# Altium schematic symbol library alchitry_elements.SCHLIB: 2 symbols
Pins are listed as number, name and electrical type; pins without a type are passive.

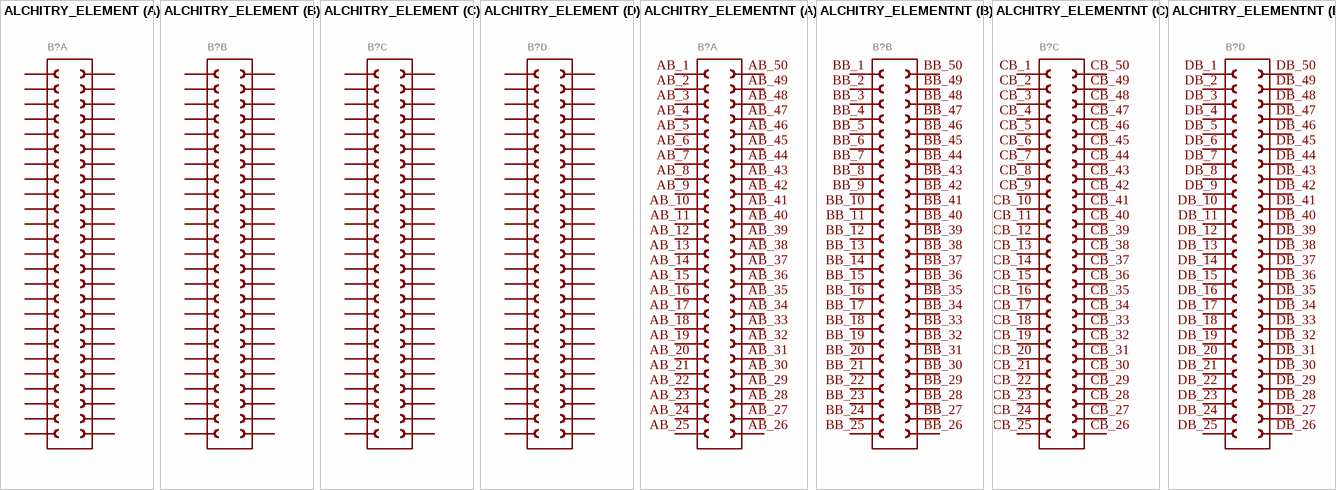
[diagram p0: symbols ALCHITRY_ELEMENT to ALCHITRY_ELEMENTNT]

## ALCHITRY_ELEMENT
designator B?
GateName_1: A; SymbolName_1: FE25-2; GateName_2: B; GateName_3: C; GateName_4: D; DeviceSetName: ALCHITRY_ELEMENT; SymbolName_2: FE25-2; SymbolName_3: FE25-2; SymbolName_4: FE25-2; LibraryName: alchitry_elements; Package: ELEMENT
footprint ELEMENT
part A pins: AB_1 AT_1 1, AB_2 AT_2 2, AB_3 AT_3 3, AB_4 AT_4 4, AB_5 AT_5 5, AB_6 AT_6 6, AB_7 AT_7 7, AB_8 AT_8 8, AB_9 AT_9 9, AB_10 AT_10 10, AB_11 AT_11 11, AB_12 AT_12 12, AB_13 AT_13 13, AB_14 AT_14 14, AB_15 AT_15 15, AB_16 AT_16 16, AB_17 AT_17 17, AB_18 AT_18 18, AB_19 AT_19 19, AB_20 AT_20 20, AB_21 AT_21 21, AB_22 AT_22 22, AB_23 AT_23 23, AB_24 AT_24 24, AB_25 AT_25 25, AB_26 AT_26 26, AB_27 AT_27 27, AB_28 AT_28 28, AB_29 AT_29 29, AB_30 AT_30 30, AB_31 AT_31 31, AB_32 AT_32 32, AB_33 AT_33 33, AB_34 AT_34 34, AB_35 AT_35 35, AB_36 AT_36 36, AB_37 AT_37 37, AB_38 AT_38 38, AB_39 AT_39 39, AB_40 AT_40 40, AB_41 AT_41 41, AB_42 AT_42 42, AB_43 AT_43 43, AB_44 AT_44 44, AB_45 AT_45 45, AB_46 AT_46 46, AB_47 AT_47 47, AB_48 AT_48 48, AB_49 AT_49 49, AB_50 AT_50 50
part B pins: BB_1 BT_1 1, BB_2 BT_2 2, BB_3 BT_3 3, BB_4 BT_4 4, BB_5 BT_5 5, BB_6 BT_6 6, BB_7 BT_7 7, BB_8 BT_8 8, BB_9 BT_9 9, BB_10 BT_10 10, BB_11 BT_11 11, BB_12 BT_12 12, BB_13 BT_13 13, BB_14 BT_14 14, BB_15 BT_15 15, BB_16 BT_16 16, BB_17 BT_17 17, BB_18 BT_18 18, BB_19 BT_19 19, BB_20 BT_20 20, BB_21 BT_21 21, BB_22 BT_22 22, BB_23 BT_23 23, BB_24 BT_24 24, BB_25 BT_25 25, BB_26 BT_26 26, BB_27 BT_27 27, BB_28 BT_28 28, BB_29 BT_29 29, BB_30 BT_30 30, BB_31 BT_31 31, BB_32 BT_32 32, BB_33 BT_33 33, BB_34 BT_34 34, BB_35 BT_35 35, BB_36 BT_36 36, BB_37 BT_37 37, BB_38 BT_38 38, BB_39 BT_39 39, BB_40 BT_40 40, BB_41 BT_41 41, BB_42 BT_42 42, BB_43 BT_43 43, BB_44 BT_44 44, BB_45 BT_45 45, BB_46 BT_46 46, BB_47 BT_47 47, BB_48 BT_48 48, BB_49 BT_49 49, BB_50 BT_50 50
part C pins: CB_1 CT_1 1, CB_2 CT_2 2, CB_3 CT_3 3, CB_4 CT_4 4, CB_5 CT_5 5, CB_6 CT_6 6, CB_7 CT_7 7, CB_8 CT_8 8, CB_9 CT_9 9, CB_10 CT_10 10, CB_11 CT_11 11, CB_12 CT_12 12, CB_13 CT_13 13, CB_14 CT_14 14, CB_15 CT_15 15, CB_16 CT_16 16, CB_17 CT_17 17, CB_18 CT_18 18, CB_19 CT_19 19, CB_20 CT_20 20, CB_21 CT_21 21, CB_22 CT_22 22, CB_23 CT_23 23, CB_24 CT_24 24, CB_25 CT_25 25, CB_26 CT_26 26, CB_27 CT_27 27, CB_28 CT_28 28, CB_29 CT_29 29, CB_30 CT_30 30, CB_31 CT_31 31, CB_32 CT_32 32, CB_33 CT_33 33, CB_34 CT_34 34, CB_35 CT_35 35, CB_36 CT_36 36, CB_37 CT_37 37, CB_38 CT_38 38, CB_39 CT_39 39, CB_40 CT_40 40, CB_41 CT_41 41, CB_42 CT_42 42, CB_43 CT_43 43, CB_44 CT_44 44, CB_45 CT_45 45, CB_46 CT_46 46, CB_47 CT_47 47, CB_48 CT_48 48, CB_49 CT_49 49, CB_50 CT_50 50
part D pins: DB_1 DT_1 1, DB_2 DT_2 2, DB_3 DT_3 3, DB_4 DT_4 4, DB_5 DT_5 5, DB_6 DT_6 6, DB_7 DT_7 7, DB_8 DT_8 8, DB_9 DT_9 9, DB_10 DT_10 10, DB_11 DT_11 11, DB_12 DT_12 12, DB_13 DT_13 13, DB_14 DT_14 14, DB_15 DT_15 15, DB_16 DT_16 16, DB_17 DT_17 17, DB_18 DT_18 18, DB_19 DT_19 19, DB_20 DT_20 20, DB_21 DT_21 21, DB_22 DT_22 22, DB_23 DT_23 23, DB_24 DT_24 24, DB_25 DT_25 25, DB_26 DT_26 26, DB_27 DT_27 27, DB_28 DT_28 28, DB_29 DT_29 29, DB_30 DT_30 30, DB_31 DT_31 31, DB_32 DT_32 32, DB_33 DT_33 33, DB_34 DT_34 34, DB_35 DT_35 35, DB_36 DT_36 36, DB_37 DT_37 37, DB_38 DT_38 38, DB_39 DT_39 39, DB_40 DT_40 40, DB_41 DT_41 41, DB_42 DT_42 42, DB_43 DT_43 43, DB_44 DT_44 44, DB_45 DT_45 45, DB_46 DT_46 46, DB_47 DT_47 47, DB_48 DT_48 48, DB_49 DT_49 49, DB_50 DT_50 50

## ALCHITRY_ELEMENTNT
designator B?
GateName_1: A; SymbolName_1: FE25-2; GateName_2: B; GateName_3: C; GateName_4: D; DeviceName: NT; DeviceSetName: ALCHITRY_ELEMENT; SymbolName_2: FE25-2; SymbolName_3: FE25-2; SymbolName_4: FE25-2; LibraryName: alchitry_elements; Package: ELEMENT_NO_TOP
footprint ELEMENT_NO_TOP
part A pins: AB_1 1, AB_2 2, AB_3 3, AB_4 4, AB_5 5, AB_6 6, AB_7 7, AB_8 8, AB_9 9, AB_10 10, AB_11 11, AB_12 12, AB_13 13, AB_14 14, AB_15 15, AB_16 16, AB_17 17, AB_18 18, AB_19 19, AB_20 20, AB_21 21, AB_22 22, AB_23 23, AB_24 24, AB_25 25, AB_26 26, AB_27 27, AB_28 28, AB_29 29, AB_30 30, AB_31 31, AB_32 32, AB_33 33, AB_34 34, AB_35 35, AB_36 36, AB_37 37, AB_38 38, AB_39 39, AB_40 40, AB_41 41, AB_42 42, AB_43 43, AB_44 44, AB_45 45, AB_46 46, AB_47 47, AB_48 48, AB_49 49, AB_50 50
part B pins: BB_1 1, BB_2 2, BB_3 3, BB_4 4, BB_5 5, BB_6 6, BB_7 7, BB_8 8, BB_9 9, BB_10 10, BB_11 11, BB_12 12, BB_13 13, BB_14 14, BB_15 15, BB_16 16, BB_17 17, BB_18 18, BB_19 19, BB_20 20, BB_21 21, BB_22 22, BB_23 23, BB_24 24, BB_25 25, BB_26 26, BB_27 27, BB_28 28, BB_29 29, BB_30 30, BB_31 31, BB_32 32, BB_33 33, BB_34 34, BB_35 35, BB_36 36, BB_37 37, BB_38 38, BB_39 39, BB_40 40, BB_41 41, BB_42 42, BB_43 43, BB_44 44, BB_45 45, BB_46 46, BB_47 47, BB_48 48, BB_49 49, BB_50 50
part C pins: CB_1 1, CB_2 2, CB_3 3, CB_4 4, CB_5 5, CB_6 6, CB_7 7, CB_8 8, CB_9 9, CB_10 10, CB_11 11, CB_12 12, CB_13 13, CB_14 14, CB_15 15, CB_16 16, CB_17 17, CB_18 18, CB_19 19, CB_20 20, CB_21 21, CB_22 22, CB_23 23, CB_24 24, CB_25 25, CB_26 26, CB_27 27, CB_28 28, CB_29 29, CB_30 30, CB_31 31, CB_32 32, CB_33 33, CB_34 34, CB_35 35, CB_36 36, CB_37 37, CB_38 38, CB_39 39, CB_40 40, CB_41 41, CB_42 42, CB_43 43, CB_44 44, CB_45 45, CB_46 46, CB_47 47, CB_48 48, CB_49 49, CB_50 50
part D pins: DB_1 1, DB_2 2, DB_3 3, DB_4 4, DB_5 5, DB_6 6, DB_7 7, DB_8 8, DB_9 9, DB_10 10, DB_11 11, DB_12 12, DB_13 13, DB_14 14, DB_15 15, DB_16 16, DB_17 17, DB_18 18, DB_19 19, DB_20 20, DB_21 21, DB_22 22, DB_23 23, DB_24 24, DB_25 25, DB_26 26, DB_27 27, DB_28 28, DB_29 29, DB_30 30, DB_31 31, DB_32 32, DB_33 33, DB_34 34, DB_35 35, DB_36 36, DB_37 37, DB_38 38, DB_39 39, DB_40 40, DB_41 41, DB_42 42, DB_43 43, DB_44 44, DB_45 45, DB_46 46, DB_47 47, DB_48 48, DB_49 49, DB_50 50